# EAGLE library part 691241500008 (library Wurth_Connectors_WR-TBL Rising Cage Clamp)
WR-TBL Serie 2415 - 5.08 mm Vertical Entry w. Rising Cage Clamp KIND PROPERTIES Pitch 5.08 mm MATERIAL PROPERTIES Insulator Material PA6/66 Insulator Flammability Rating UL94 V-0 Insulator Color Green Contact Material Copper Alloy Contact Plating Tin over Nickel Terminal Screw Material Steel Terminal Screw Plating Zinc Wire Guard Material Copper Alloy GENERAL INFORMATION Operating Temperature -30 up to +120 °C Compliance Lead free / RoHS ELECTRICAL PROPERTIES IR UL 14 A IR VDE 14 A Working Voltage [UL] 300 V (AC) Working Voltage [VDE] 250 V (AC) Withstanding Voltage [UL] 1600 V (AC) Withstanding Voltage [VDE] 2000 V (AC) Contact Resistance 20 mΩ MECHANICAL PROPERTIES Wire Strip Length 6 (mm) Screw M3 CERTIFICATION UL Approval E130931; E150931 VDE Approval 40021365 PACKAGING PROPERTIES Packaging Box <https://www.we-online.com/catalog/media/o79414v209%20WR-TBL_6912427000xx_6912425000xx_4C.jpg> Details see: https://www.we-online.com/catalog/en/TBL_5_08_2415_VERTICAL_ENTRY_W_RISING_CAGE_CLAMP_6912415000XX/ Updated by Ella Wu 2019-11-26 2019(C) Wurth Elektronik
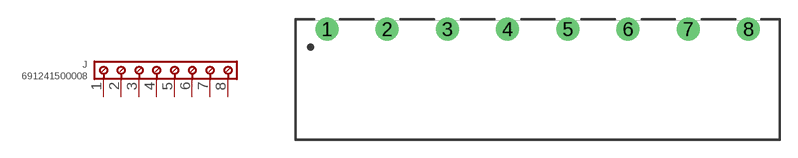
[diagram p109: symbol with the pads of 691241500008; footprint 691241500008]

Designator prefix J

## 691241500008 (IR-UL: 14A; IR-VDE: 14A; PART-NUMBER: 691241500008; PINS: 8; PITCH: 5.08mm; TYPE: Vertical; WIRE: 14 to 30 (AWG) 2.08 to 0.0509 (mm²); WORKING-VOLTAGE-UL: 300V (AC); WORKING-VOLTAGE-VDE: 250V (AC))  [691241500008]
1  1  pas
2  2  pas
3  3  pas
4  4  pas
5  5  pas
6  6  pas
7  7  pas
8  8  pas

## Footprint 691241500008 (pad centres in mm)
WR-TBL Serie 2415 - 5.08 mm Vertical Entry w. Rising Cage Clamp Max Height =8.1mm , Pitch 5.08mm , 8 Pins
drill 1.3: 1 -17.78,0; 2 -12.7,0; 3 -7.62,0; 4 -2.54,0; 5 2.54,0; 6 7.62,0; 7 12.7,0; 8 17.78,0